# Altium footprint library OpticalCoupler.PcbLib: 1 footprints
Each footprint in its own frame and in the unit in brackets; x right, y up, seen from the top. Pads: shape width x height; smd on the part's side, far side on the other; paste and mask are expansions set on the pad; w line width, h text height; cw(c..) or ccw(c..) is an arc to the next point about the centre after c.
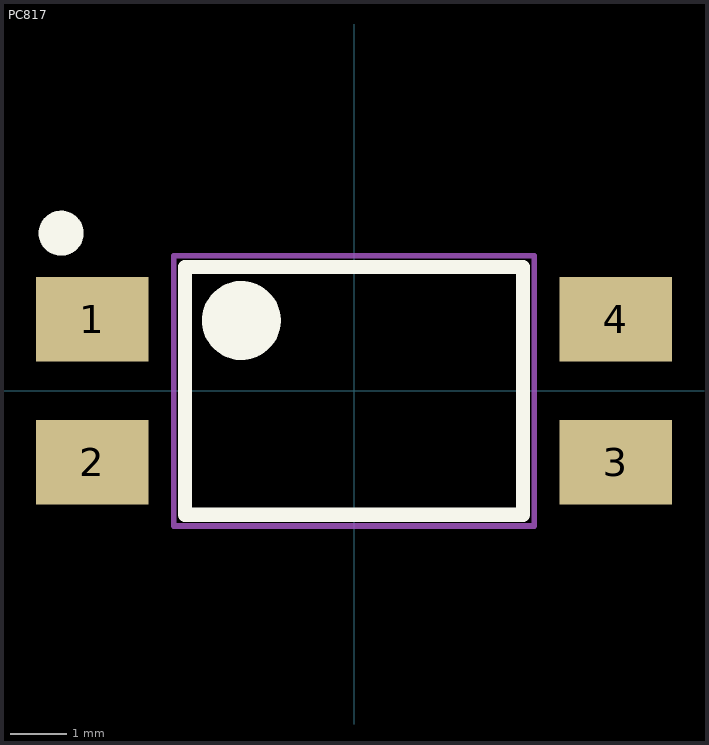
[diagram p0: the footprint, top view; thin cyan lines are the x and y axes]

## PC817 [mm]
pads (4):
  rect 2x1.5 smd: 1(-4.65,1.27) 2(-4.65,-1.27) 3(4.65,-1.27) 4(4.65,1.27)
Top Overlay:
  circle w0.4: c-5.2,2.8 r0.2
  circle w0.7: c-2,1.25 r0.35
  lines w0.254: -3,-2.2 -3,2.2 3,2.2 3,-2.2 -3,-2.2
Mechanical 13:
  lines w0.1: -3.2,-2.4 3.2,-2.4 3.2,2.4 -3.2,2.4 -3.2,-2.4
3D body "User Library-DIP4_opto_iso.STEP": height 3.9, standoff 0, extent -5.015,-2.416 5.015,2.416